# Altium schematic symbol library Switch,Tactile,SPST-NO,Thru.Schlib: 1 symbol
Pins are listed as number, name and electrical type; pins without a type are passive.

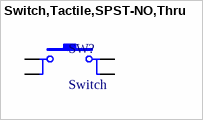
[diagram p0: symbol Switch,Tactile,SPST-NO,Thru]

## Switch,Tactile,SPST-NO,Thru
designator SW?, comment Switch
Tactile Switch SPST-NO Top Actuated Through Hole
pins: 1, 2, 3, 4